# Altium integrated library Linear Technology PMIC-Switching Reg LTC1174-LTC3901.IntLib: 2647 symbols (part 54 of 310)
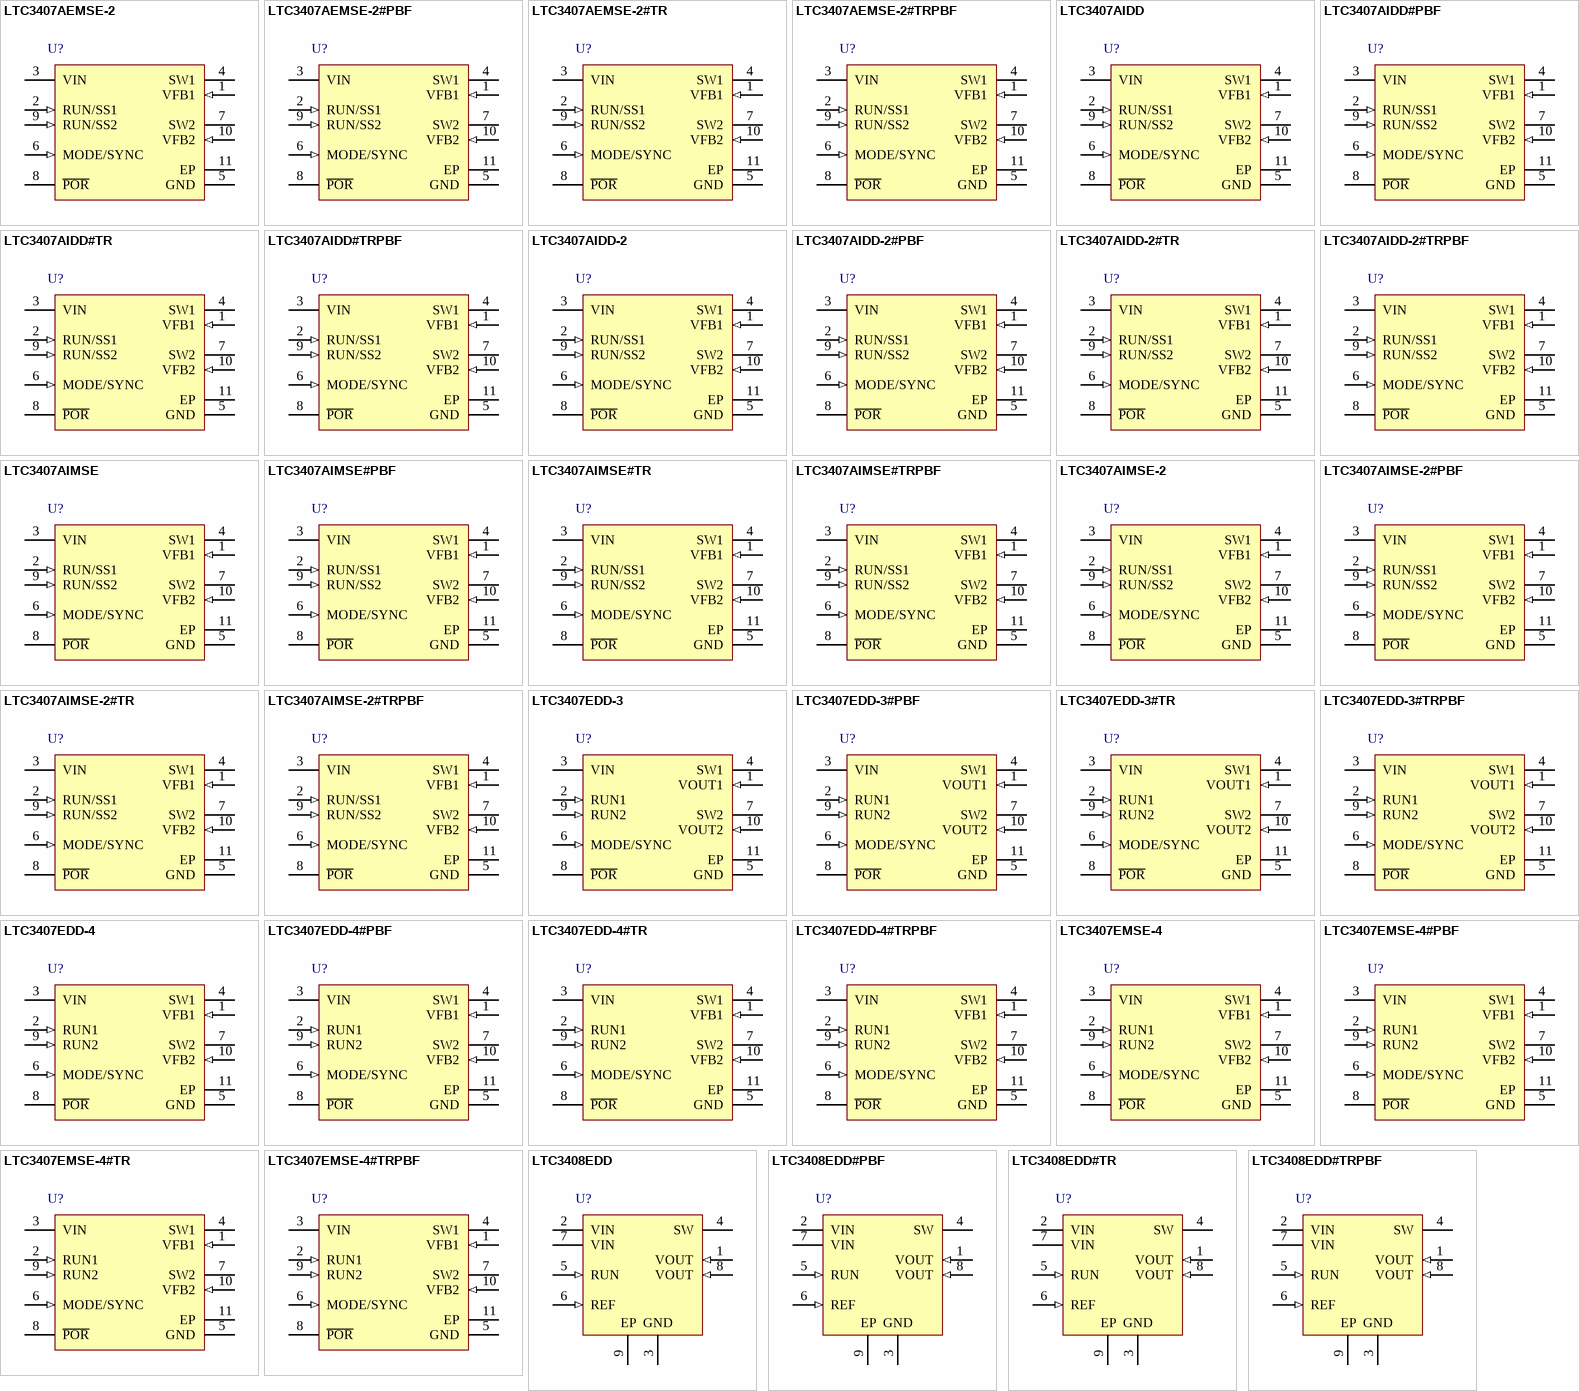
[diagram p247: symbols LTC3407AEMSE-2 to LTC3408EDD#TRPBF]

## LTC3407AIMSE#TR
designator U?
Dual Synchronous 600 mA, 1.5 MHz Step-Down DC/DC Regulator, 10-pin SOP (MSE-10-EDP), -40 to 125 degC, Tape and Reel; Manufacturer: Linear Technology; PartNumber: LTC3407AIMSE#TR; Number of Outputs: 2; PackageReference: MSE-10; PackageDescription: 10-Pin Plastic MSOP, Exposed Die Pad, Body 3 x 3 mm, Pitch 0.5 mm; RoHS: FALSE
footprint LT-MSE-10-EDP-2060x1830TP_N (SOP, 10-Leads, Body 3.1x3.1mm, Pitch 0.5mm, Thermal Pad 2.17x1.94mm, IPC Medium Density)
footprint LT-MSE-10-EDP-2060x1830TP_L (SOP, 10-Leads, Body 3.1x3.1mm, Pitch 0.5mm, Thermal Pad 2.17x1.94mm, IPC High Density)
footprint LT-MSE-10-EDP-2060x1830TP_M (SOP, 10-Leads, Body 3.1x3.1mm, Pitch 0.5mm, Thermal Pad 2.17x1.94mm, IPC Low Density)
pins: 1 VFB1 (in) "Output Feedback. Receives the feedback voltage from the external resistive divider across the output. Nominal voltage for this pin is 0.6V.", 2 RUN/SS1 (in) "Regulator 1 Enable and Soft-Start Input. Forcing this pin to VIN enables regulator 1, while forcing it to GND causes regulator 1 to shut down. Connect external RC-network with desired time-constant to enable softstart (See Datasheet)", 3 VIN (power) "Main Power Supply. Must be closely decoupled to GND.", 4 SW1 (power) "Regulator 1 Switch Node Connection to the Inductor. This pin swings from VIN to GND", 5 GND (power) "Main Ground. Connect to the (-) terminal of COUT, and (-) terminal of CIN.", 6 MODE/SYNC (in) "Combination Mode Selection and Oscillator Synchronization. This pin controls the operation of the device. When tied to VIN or GND, Burst Mode operation or pulse skipping mode is selected, respectively. Do not float this pin. (See Datasheet)", 7 SW2 (power) "Regulator 2 Switch Node Connection to the Inductor. This pin swings from VIN to GND.", 8 ~{POR} (oc) "Power-On Reset. This common-drain logic output is pulled to GND when the output voltage is not within +/-8.5% of regulation and goes high after 2^16 clock cycles when both channels are within regulation.", 9 RUN/SS2 (in) "Regulator 2 Enable and Soft-Start Input. Forcing this pin to VIN enables regulator 2, while forcing it to GND causes regulator 2 to shut down. Connect external RC-Network with desired time-constant to enable softstart (See Datasheet)", 10 VFB2 (in) "Output Feedback. Receives the feedback voltage from the external resistive divider across the output. Nominal voltage for this pin is 0.6V.", 11 EP (power) "Power Ground. Connect to the (-) terminal of COUT, and (-) terminal of CIN. Must be soldered to electrical ground on PCB."

## LTC3407AIMSE#TRPBF
designator U?
Dual Synchronous 600 mA, 1.5 MHz Step-Down DC/DC Regulator, 10-pin SOP (MSE-10-EDP), -40 to 125 degC, Pb-Free, Tape and Reel; Manufacturer: Linear Technology; PartNumber: LTC3407AIMSE#TRPBF; Number of Outputs: 2; PackageReference: MSE-10; PackageDescription: 10-Pin Plastic MSOP, Exposed Die Pad, Body 3 x 3 mm, Pitch 0.5 mm; Supplier 1: Digi-Key; Supplier Part Number 1: LTC3407AIMSE#TRPBF-ND; RoHS: TRUE
footprint LT-MSE-10-EDP-2060x1830TP_N (SOP, 10-Leads, Body 3.1x3.1mm, Pitch 0.5mm, Thermal Pad 2.17x1.94mm, IPC Medium Density)
footprint LT-MSE-10-EDP-2060x1830TP_L (SOP, 10-Leads, Body 3.1x3.1mm, Pitch 0.5mm, Thermal Pad 2.17x1.94mm, IPC High Density)
footprint LT-MSE-10-EDP-2060x1830TP_M (SOP, 10-Leads, Body 3.1x3.1mm, Pitch 0.5mm, Thermal Pad 2.17x1.94mm, IPC Low Density)
pins: 1 VFB1 (in) "Output Feedback. Receives the feedback voltage from the external resistive divider across the output. Nominal voltage for this pin is 0.6V.", 2 RUN/SS1 (in) "Regulator 1 Enable and Soft-Start Input. Forcing this pin to VIN enables regulator 1, while forcing it to GND causes regulator 1 to shut down. Connect external RC-network with desired time-constant to enable softstart (See Datasheet)", 3 VIN (power) "Main Power Supply. Must be closely decoupled to GND.", 4 SW1 (power) "Regulator 1 Switch Node Connection to the Inductor. This pin swings from VIN to GND", 5 GND (power) "Main Ground. Connect to the (-) terminal of COUT, and (-) terminal of CIN.", 6 MODE/SYNC (in) "Combination Mode Selection and Oscillator Synchronization. This pin controls the operation of the device. When tied to VIN or GND, Burst Mode operation or pulse skipping mode is selected, respectively. Do not float this pin. (See Datasheet)", 7 SW2 (power) "Regulator 2 Switch Node Connection to the Inductor. This pin swings from VIN to GND.", 8 ~{POR} (oc) "Power-On Reset. This common-drain logic output is pulled to GND when the output voltage is not within +/-8.5% of regulation and goes high after 2^16 clock cycles when both channels are within regulation.", 9 RUN/SS2 (in) "Regulator 2 Enable and Soft-Start Input. Forcing this pin to VIN enables regulator 2, while forcing it to GND causes regulator 2 to shut down. Connect external RC-Network with desired time-constant to enable softstart (See Datasheet)", 10 VFB2 (in) "Output Feedback. Receives the feedback voltage from the external resistive divider across the output. Nominal voltage for this pin is 0.6V.", 11 EP (power) "Power Ground. Connect to the (-) terminal of COUT, and (-) terminal of CIN. Must be soldered to electrical ground on PCB."